# Altium footprint library dcconventer.PcbLib: 1 footprints
Each footprint in its own frame and in the unit in brackets; x right, y up, seen from the top. Pads: shape width x height; smd on the part's side, far side on the other; paste and mask are expansions set on the pad; w line width, h text height; cw(c..) or ccw(c..) is an arc to the next point about the centre after c.
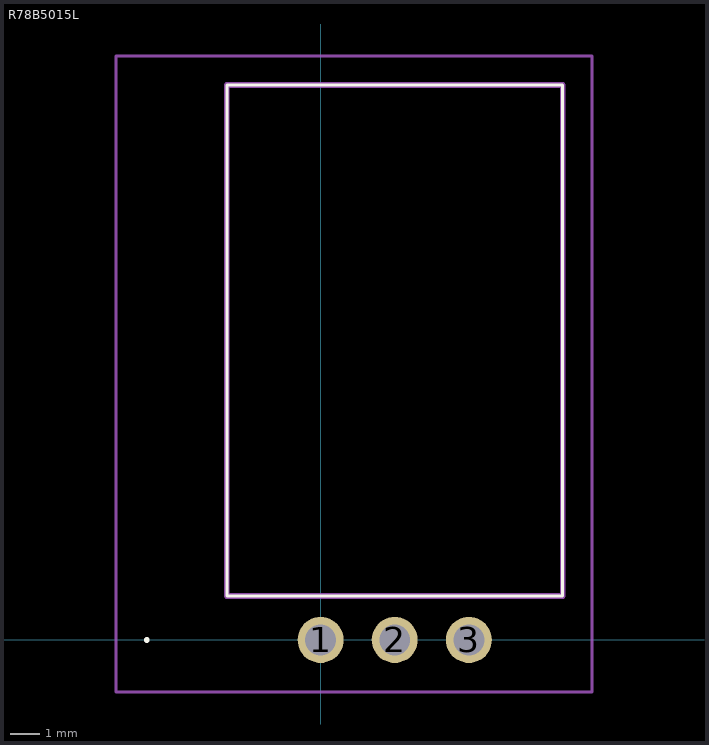
[diagram p0: the footprint, top view; thin cyan lines are the x and y axes]

## R78B5015L [mm]
pads (3):
  round 1.575 hole 1.05: 1(0,0) 2(2.54,0) 3(5.08,0)
Top Overlay:
  lines w0.1: -6,0 ccw(c-5.95,0) -5.9,0 ; -6,0 cw(c-5.95,0) -5.9,0 ; -6,0 ccw(c-5.95,0) -5.9,0 ; -3.21,1.5 -3.21,19 8.29,19 8.29,1.5 -3.21,1.5
Mechanical 13:
  lines w0.2: -3.21,1.5 -3.21,19 8.29,19 8.29,1.5 -3.21,1.5
Mechanical 15:
  lines w0.1: -7,-1.788 -7,20 9.29,20 9.29,-1.788 -7,-1.788
3D body "R-78B5.0-1.5L.stp": height 8.55, standoff -4.05, extent -3.22,-0.39 8.38,18.61